# Altium schematic symbol library arduino_headers.SchLib: 4 symbols
Pins are listed as number, name and electrical type; pins without a type are passive.

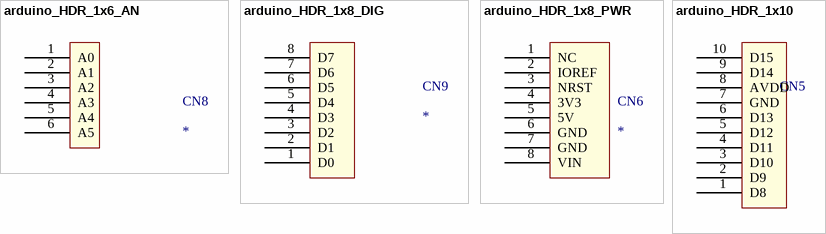
[diagram p0: symbols arduino_HDR_1x6_AN to arduino_HDR_1x10]

## arduino_HDR_1x6_AN
designator CN8
footprint 1x6
pins: 1 A0, 2 A1, 3 A2, 4 A3, 5 A4, 6 A5

## arduino_HDR_1x8_DIG
designator CN9
footprint 1x8
pins: 1 D0, 2 D1, 3 D2, 4 D3, 5 D4, 6 D5, 7 D6, 8 D7

## arduino_HDR_1x8_PWR
designator CN6
footprint 1x8_D8
pins: 1 NC, 2 IOREF, 3 NRST, 4 3V3, 5 5V, 6 GND, 7 GND, 8 VIN

## arduino_HDR_1x10
designator CN5
footprint 1x10
pins: 1 D8, 2 D9, 3 D10, 4 D11, 5 D12, 6 D13, 7 GND, 8 AVDD, 9 D14, 10 D15